# EAGLE library part 691321300021 (library Terminal_Blocks_Connectors_rev15e)
WR-TBL Serie 321 - 3.81mm Vertical PCB Header , 21 pins=>Code : Con_TBL_Pluggable_3.81_PCB_THT_Simple_691321300021 <http://katalog.we-online.de/media/images/eican/Con_TBL_Pluggable_3.81_PCB_THT_Simple_6913213000xx_pf2.jpg> Details see: http://katalog.we-online.de/en/em/691_321_300_0xx Created 2014-06-19, Karrer Zheng 2014 (C) Würth Elektronik
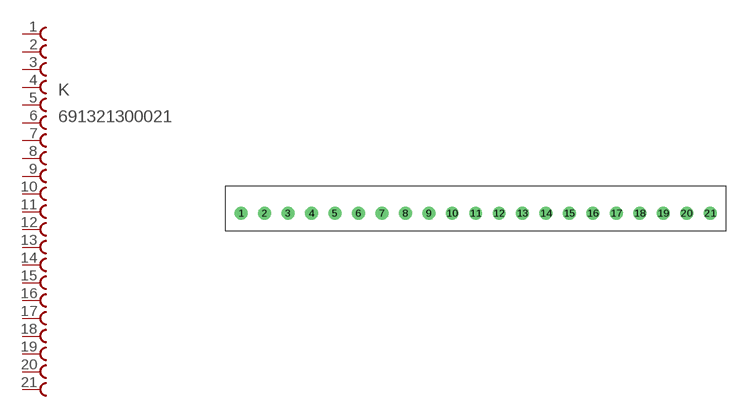
[diagram p32: symbol with the pads of 691321300021; footprint 691321300021]

Designator prefix K

## 691321300021  [691321300021]
1  1  pas
2  2  pas
3  3  pas
4  4  pas
5  5  pas
6  6  pas
7  7  pas
8  8  pas
9  9  pas
10  10  pas
11  11  pas
12  12  pas
13  13  pas
14  14  pas
15  15  pas
16  16  pas
17  17  pas
18  18  pas
19  19  pas
20  20  pas
21  21  pas

## Footprint 691321300021 (pad centres in mm)
WR-TBL Serie 321 - 3.81mm Vertical PCB Header, 20 Pins
drill 1.4: 1 -41.91,0; 2 -38.1,0; 3 -34.29,0; 4 -30.48,0; 5 -26.67,0; 6 -22.86,0; 7 -19.05,0; 8 -15.24,0; 9 -11.43,0; 10 -7.62,0; 11 -3.81,0; 12 0,0; 13 3.81,0; 14 7.62,0; 15 11.43,0; 16 15.24,0; 17 19.05,0; 18 22.86,0; 19 26.67,0; 20 30.48,0; 21 34.29,0